# Altium schematic symbol library edition1.SchLib: 17 symbols
Pins are listed as number, name and electrical type; pins without a type are passive.

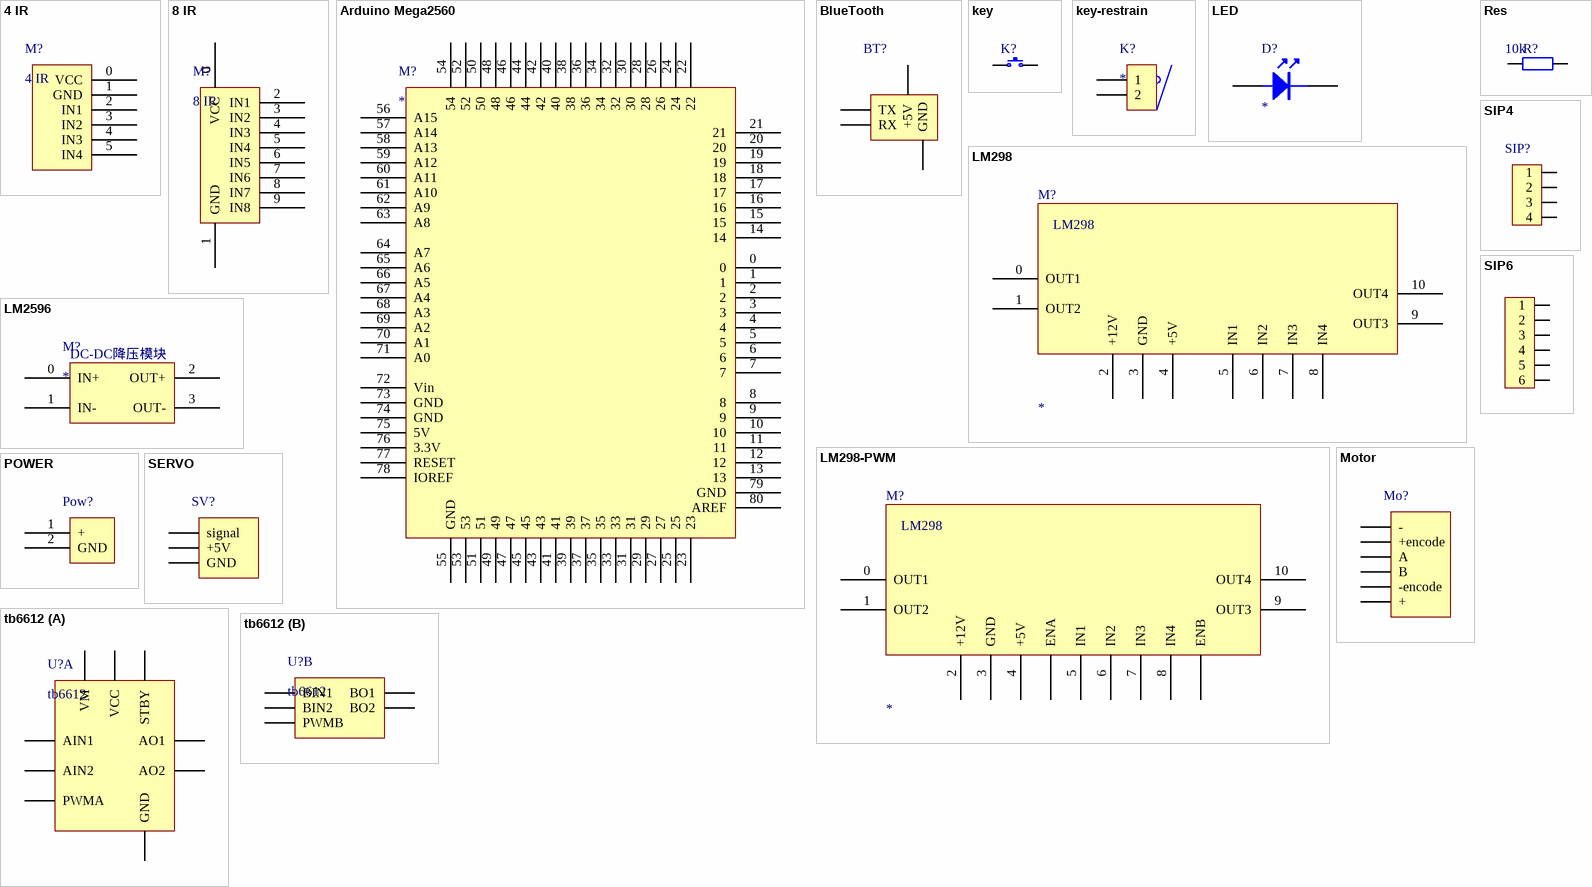
[diagram p0: symbols 4 IR to tb6612]

## 4 IR
designator M?
footprint 4 infrared avoidance
pins: 0 VCC, 1 GND, 2 IN1, 3 IN2, 4 IN3, 5 IN4

## 8 IR
designator M?
footprint 4 infrared avoidance
footprint 8 infrared avoidance (Footprint not found)
pins: 0 VCC, 1 GND, 2 IN1, 3 IN2, 4 IN3, 5 IN4, 6 IN5, 7 IN6, 8 IN7, 9 IN8

## Arduino Mega2560
designator M?
footprint Arduino Mega2560
pins: 0, 1, 2, 3, 4, 5, 6, 7, 8, 9, 10, 11, 12, 13, 14, 15, 16, 17, 18, 19, 20, 21, 22, 23, 24, 25, 26, 27, 28, 29, 30, 31, 32, 33, 34, 35, 36, 37, 38, 39, 40, 41, 42, 43, 44, 45, 46, 47, 48, 49, 50, 51, 52, 53, 54, 55 GND, 56 A15, 57 A14, 58 A13, 59 A12, 60 A11, 61 A10, 62 A9, 63 A8, 64 A7, 65 A6, 66 A5, 67 A4, 68 A3, 69 A2, 70 A1, 71 A0, 72 Vin, 73 GND, 74 GND, 75 5V, 76 3.3V, 77 RESET, 78 IOREF, 79 GND, 80 AREF

## BlueTooth
designator BT?  (value not drawn)
footprint SIP4-1
pins: 1 +5V, 2 GND, 3 TX, 4 RX

## key
designator K?  (value not drawn)
footprint Header2
pins: 1, 2

## key-restrain
designator K?
footprint Header2
pins: 1, 2

## LED
designator D?
footprint LED-NEW
pins: A 1, K 2

## LM298
designator M?
footprint LM298
pins: 0 OUT1, 1 OUT2, 2 +12V, 3 GND, 4 +5V, 5 IN1, 6 IN2, 7 IN3, 8 IN4, 9 OUT3, 10 OUT4
2 alternate drawings of the same symbol

## LM298-PWM
designator M?
footprint LM298 - PWM
pins: 0 OUT1, 1 OUT2, 2 +12V, 3 GND, 4 +5V, 5 IN1, 6 IN2, 7 IN3, 8 IN4, 9 OUT3, 10 OUT4, ENA, ENB
2 alternate drawings of the same symbol
text: LM298

## LM2596
designator M?
footprint DC-DC降压
pins: 0 IN+, 1 IN-, 2 OUT+, 3 OUT-
text: DC-DC降压模块

## Motor
designator Mo?  (value not drawn)
footprint SIP6-1
pins: 1 -, 2 +encode, 3 A, 4 B, 5 -encode, 6 +

## POWER
designator Pow?  (value not drawn)
footprint Power
pins: 1 +, 2 GND

## Res
designator R?, comment 10k
Resistor; Manufacturer: Generic Components; Class: Passive; Published: 08/06/2000; Publisher: Altium Hobart Technology Centre; SubClass: Resistor
footprint 6-0805 (Chip Resistor; Body 2.0 x 1.3 mm (LxW typ))
pins: 1, 2

## SERVO
designator SV?  (value not drawn)
footprint SIP3-1
pins: 1 signal, 2 +5V, 3 GND

## SIP4
designator SIP?  (value not drawn)
footprint SIP4-1
pins: 1, 2, 3, 4

## SIP6
designator SIP6?  (value not drawn)
footprint SIP6-1
pins: 1, 2, 3, 4, 5, 6

## tb6612
designator U?
footprint tb6612
part A pins: 1 VM, 2 VCC, 4 AO1, 5 AO2, 8 GND, 13 STBY, 14 AIN1, 15 AIN2, 16 PWMA
part B pins: 6 BO2, 7 BO1, 10 PWMB, 11 BIN2, 12 BIN1